# EAGLE library part 7491199501 (library WE-POE)
WE-PoE Power over Ethernet Transformer Characteristics Flyback transformer designed for PoE PDs Input voltage: 36 V to 57 V Switching frequencies: 200–500 kHz Operating temperature: –40 ºC to +125 ºC Isolation voltage: 1.5 kVAC/1 min Different output powers and voltages available Applications PoE powered devices IP Phones WLAN Access Points Access control terminals Security cameras <https://www.we-online.com/components/media/o766301v209%20Family-POE.jpg> Details see: www.we-online.com/en/components/products/WE-POE <www.we-online.com/catalog/WE-POE/?utm_source=eagle_model&utm_medium=description_link&utm_campaign=eisos_eagle> Updated by Ella 2025-06-12 2025 (C) Würth Elektronik
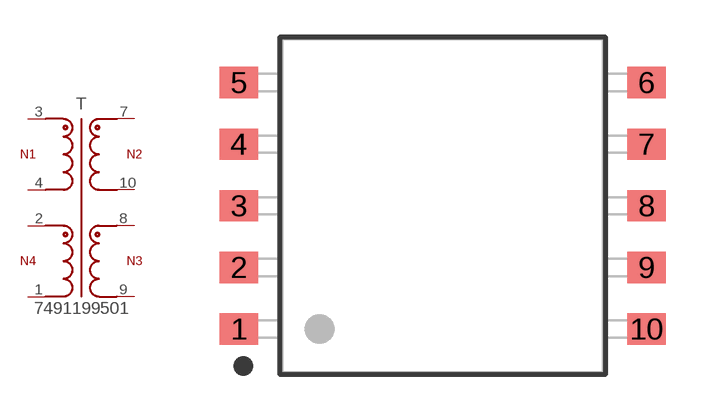
[diagram p22: symbol with the pads of WE-POE_EP13_L13.5W13H12.5; footprint WE-POE_EP13_L13.5W13H12.5]

Designator prefix T

## 7491199501 (DATASHEET-URL: https://www.we-online.com/redexpert/spec/7491199501?ae; IO1: 1.3A; IO2: 1.3A; L: 127uH; MOUNT: SMT; N: 8:1:1:1.67; PART-NUMBER: 7491199501; SIZE: EP13; VALUE: 7491199501; VERSION: Flyback; VIN: 36 - 57 V (DC); VO1: 5V; VO2: 5V; VT: 1500VAC)  [WE-POE_EP13_L13.5W13H12.5]
1  1  pas
2  2  pas
3  3  pas
4  4  pas
7  7  pas
8  8  pas
9  9  pas
10  10  pas

## Footprint WE-POE_EP13_L13.5W13H12.5 (pad centres in mm)
WE-PoE Power over Ethernet Transformer EP13, SMT, 10Pins LXWXH=13.5X13X12.5mm
smd 1.55 x 1.27: 1 -8.275,-5; 2 -8.275,-2.5; 3 -8.275,0; 4 -8.275,2.5; 5 -8.275,5; 6 8.275,5; 7 8.275,2.5; 8 8.275,0; 9 8.275,-2.5; 10 8.275,-5